# Altium integrated library WE_WR-WTB_Wire-to-Board Connectors_1.50 mm_rev15b.IntLib: 34 symbols
Pins are listed as number, name and electrical type; pins without a type are passive.

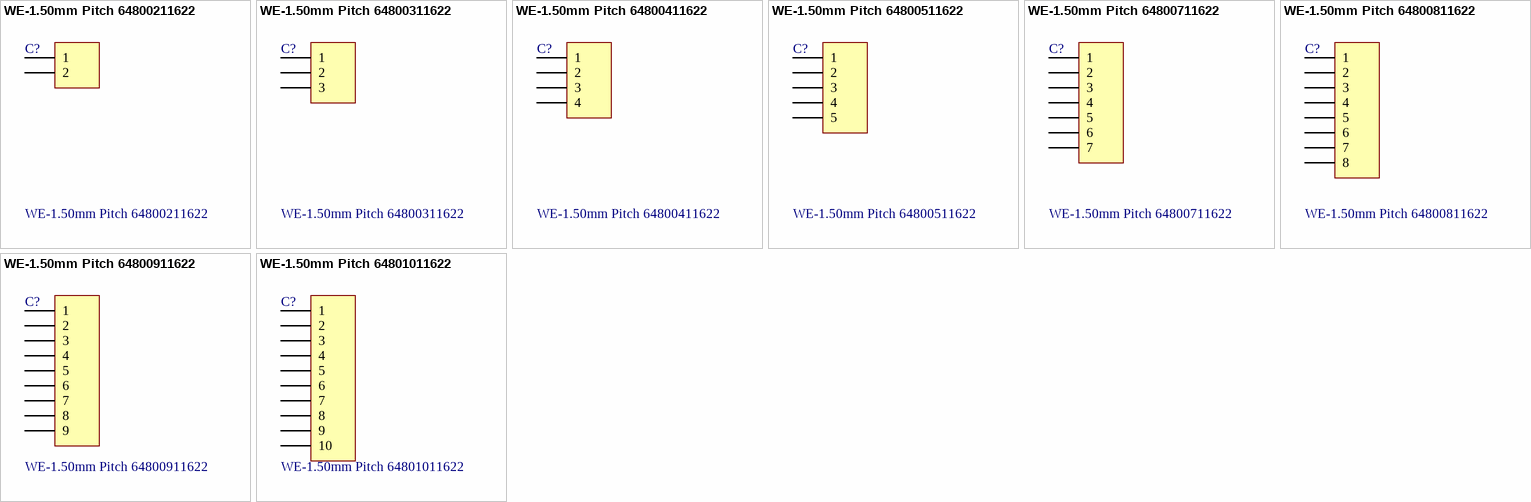
[diagram p0: symbols WE-1.50mm Pitch 64800211622 to WE-1.50mm Pitch 64801011622]

## WE-1.50mm Pitch 64800211622
designator C?
WR-WTB 1.50mm Male Shrouded Header; Manufacturer: Würth Elektronik eiSos GmbH; ComponentLink1 Description: Manufacturer; ComponentLink2 Description: Datasheet; NoPins: 2; Created Date: 11 June 2013; partNo: 64800211622; ComponentLink1URL: http://www.we-online.com; ComponentLink2URL: http://katalog.we-online.de/em/datasheet/6480xx11622.pdf; Created by: Karrer Zheng
footprint 64800211622
pins: 1, 2

## WE-1.50mm Pitch 64800311622
designator C?
WR-WTB 1.50mm Male Shrouded Header; Manufacturer: Würth Elektronik eiSos GmbH; ComponentLink1 Description: Manufacturer; ComponentLink2 Description: Datasheet; NoPins: 3; Created Date: 11 June 2013; partNo: 64800311622; ComponentLink1URL: http://www.we-online.com; ComponentLink2URL: http://katalog.we-online.de/em/datasheet/6480xx11622.pdf; Created by: Karrer Zheng
footprint 64800311622
pins: 1, 2, 3

## WE-1.50mm Pitch 64800411622
designator C?
WR-WTB 1.50mm Male Shrouded Header; Manufacturer: Würth Elektronik eiSos GmbH; ComponentLink1 Description: Manufacturer; ComponentLink2 Description: Datasheet; NoPins: 4; Created Date: 11 June 2013; partNo: 64800411622; ComponentLink1URL: http://www.we-online.com; ComponentLink2URL: http://katalog.we-online.de/em/datasheet/6480xx11622.pdf; Created by: Karrer Zheng
footprint 64800411622
pins: 1, 2, 3, 4

## WE-1.50mm Pitch 64800511622
designator C?
WR-WTB 1.50mm Male Shrouded Header; Manufacturer: Würth Elektronik eiSos GmbH; ComponentLink1 Description: Manufacturer; ComponentLink2 Description: Datasheet; NoPins: 5; Created Date: 11 June 2013; partNo: 64800511622; ComponentLink1URL: http://www.we-online.com; ComponentLink2URL: http://katalog.we-online.de/em/datasheet/6480xx11622.pdf; Created by: Karrer Zheng
footprint 64800511622
pins: 1, 2, 3, 4, 5

## WE-1.50mm Pitch 64800711622
designator C?
WR-WTB 1.50mm Male Shrouded Header; Manufacturer: Würth Elektronik eiSos GmbH; ComponentLink1 Description: Manufacturer; ComponentLink2 Description: Datasheet; NoPins: 7; Created Date: 11 June 2013; partNo: 64800711622; ComponentLink1URL: http://www.we-online.com; ComponentLink2URL: http://katalog.we-online.de/em/datasheet/6480xx11622.pdf; Created by: Karrer Zheng
footprint 64800711622
pins: 1, 2, 3, 4, 5, 6, 7

## WE-1.50mm Pitch 64800811622
designator C?
WR-WTB 1.50mm Male Shrouded Header; Manufacturer: Würth Elektronik eiSos GmbH; ComponentLink1 Description: Manufacturer; ComponentLink2 Description: Datasheet; NoPins: 8; Created Date: 11 June 2013; partNo: 64800811622; ComponentLink1URL: http://www.we-online.com; ComponentLink2URL: http://katalog.we-online.de/em/datasheet/6480xx11622.pdf; Created by: Karrer Zheng
footprint 64800811622
pins: 1, 2, 3, 4, 5, 6, 7, 8

## WE-1.50mm Pitch 64800911622
designator C?
WR-WTB 1.50mm Male Shrouded Header; Manufacturer: Würth Elektronik eiSos GmbH; ComponentLink1 Description: Manufacturer; ComponentLink2 Description: Datasheet; NoPins: 9; Created Date: 11 June 2013; partNo: 64800911622; ComponentLink1URL: http://www.we-online.com; ComponentLink2URL: http://katalog.we-online.de/em/datasheet/6480xx11622.pdf; Created by: Karrer Zheng
footprint 64800911622
pins: 1, 2, 3, 4, 5, 6, 7, 8, 9

## WE-1.50mm Pitch 64801011622
designator C?
WR-WTB 1.50mm Male Shrouded Header; Manufacturer: Würth Elektronik eiSos GmbH; ComponentLink1 Description: Manufacturer; ComponentLink2 Description: Datasheet; NoPins: 10; Created Date: 11 June 2013; partNo: 64801011622; ComponentLink1URL: http://www.we-online.com; ComponentLink2URL: http://katalog.we-online.de/em/datasheet/6480xx11622.pdf; Created by: Karrer Zheng
footprint 64801011622 (10 pins, straight)
pins: 1, 2, 3, 4, 5, 6, 7, 8, 9, 10


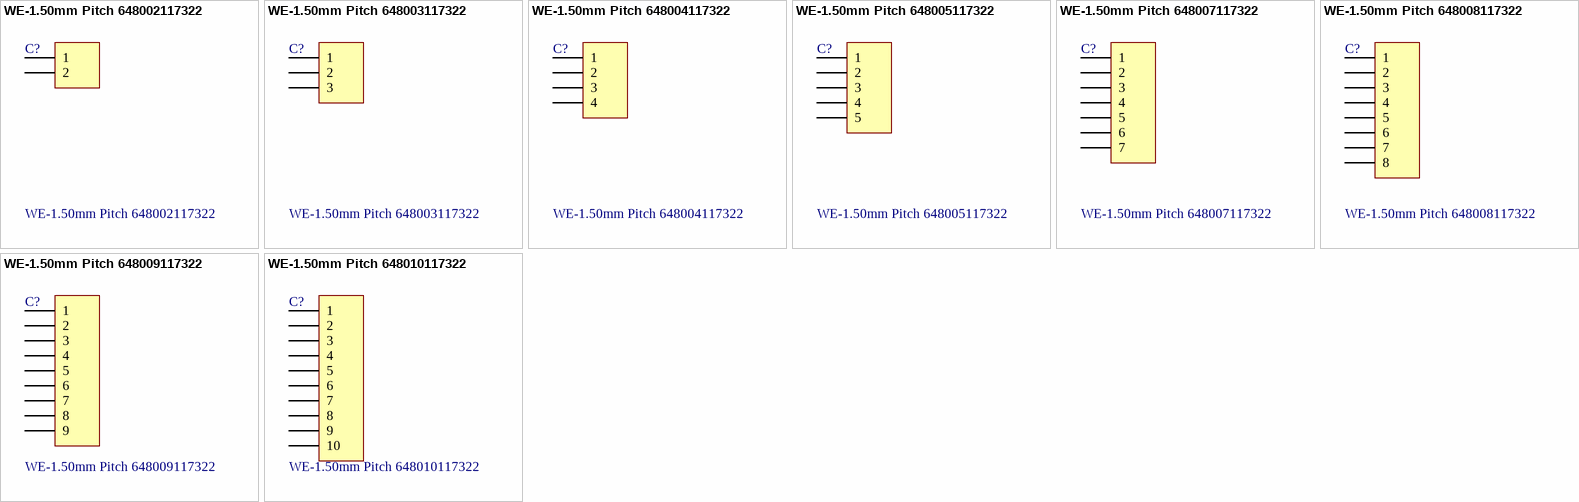
[diagram p1: symbols WE-1.50mm Pitch 648002117322 to WE-1.50mm Pitch 648010117322]

## WE-1.50mm Pitch 648002117322
designator C?
WR-WTB 1.50mm Male Horizontal Shrouded Header; Manufacturer: Würth Elektronik eiSos GmbH; ComponentLink1 Description: Manufacturer; ComponentLink2 Description: Datasheet; NoPins: 2; Created Date: 11 June 2013; partNo: 648002117322; ComponentLink1URL: http://www.we-online.com; ComponentLink2URL: http://katalog.we-online.de/em/datasheet/6480xx117322.pdf; Created by: Karrer Zheng
footprint 648002117322
pins: 1, 2

## WE-1.50mm Pitch 648003117322
designator C?
WR-WTB 1.50mm Male Horizontal Shrouded Header; Manufacturer: Würth Elektronik eiSos GmbH; ComponentLink1 Description: Manufacturer; ComponentLink2 Description: Datasheet; NoPins: 3; Created Date: 11 June 2013; partNo: 648003117322; ComponentLink1URL: http://www.we-online.com; ComponentLink2URL: http://katalog.we-online.de/em/datasheet/6480xx117322.pdf; Created by: Karrer Zheng
footprint 648003117322
pins: 1, 2, 3

## WE-1.50mm Pitch 648004117322
designator C?
WR-WTB 1.50mm Male Horizontal Shrouded Header; Manufacturer: Würth Elektronik eiSos GmbH; ComponentLink1 Description: Manufacturer; ComponentLink2 Description: Datasheet; NoPins: 4; Created Date: 11 June 2013; partNo: 648004117322; ComponentLink1URL: http://www.we-online.com; ComponentLink2URL: http://katalog.we-online.de/em/datasheet/6480xx117322.pdf; Created by: Karrer Zheng
footprint 648004117322
pins: 1, 2, 3, 4

## WE-1.50mm Pitch 648005117322
designator C?
WR-WTB 1.50mm Male Horizontal Shrouded Header; Manufacturer: Würth Elektronik eiSos GmbH; ComponentLink1 Description: Manufacturer; ComponentLink2 Description: Datasheet; NoPins: 5; Created Date: 11 June 2013; partNo: 648005117322; ComponentLink1URL: http://www.we-online.com; ComponentLink2URL: http://katalog.we-online.de/em/datasheet/6480xx117322.pdf; Created by: Karrer Zheng
footprint 648005117322
pins: 1, 2, 3, 4, 5

## WE-1.50mm Pitch 648007117322
designator C?
WR-WTB 1.50mm Male Horizontal Shrouded Header; Manufacturer: Würth Elektronik eiSos GmbH; ComponentLink1 Description: Manufacturer; ComponentLink2 Description: Datasheet; NoPins: 7; Created Date: 11 June 2013; partNo: 648007117322; ComponentLink1URL: http://www.we-online.com; ComponentLink2URL: http://katalog.we-online.de/em/datasheet/6480xx117322.pdf; Created by: Karrer Zheng
footprint 648007117322
pins: 1, 2, 3, 4, 5, 6, 7

## WE-1.50mm Pitch 648008117322
designator C?
WR-WTB 1.50mm Male Horizontal Shrouded Header; Manufacturer: Würth Elektronik eiSos GmbH; ComponentLink1 Description: Manufacturer; ComponentLink2 Description: Datasheet; NoPins: 8; Created Date: 11 June 2013; partNo: 648008117322; ComponentLink1URL: http://www.we-online.com; ComponentLink2URL: http://katalog.we-online.de/em/datasheet/6480xx117322.pdf; Created by: Karrer Zheng
footprint 648008117322
pins: 1, 2, 3, 4, 5, 6, 7, 8

## WE-1.50mm Pitch 648009117322
designator C?
WR-WTB 1.50mm Male Horizontal Shrouded Header; Manufacturer: Würth Elektronik eiSos GmbH; ComponentLink1 Description: Manufacturer; ComponentLink2 Description: Datasheet; NoPins: 9; Created Date: 11 June 2013; partNo: 648009117322; ComponentLink1URL: http://www.we-online.com; ComponentLink2URL: http://katalog.we-online.de/em/datasheet/6480xx117322.pdf; Created by: Karrer Zheng
footprint 648009117322
pins: 1, 2, 3, 4, 5, 6, 7, 8, 9

## WE-1.50mm Pitch 648010117322
designator C?
WR-WTB 1.50mm Male Horizontal Shrouded Header; Manufacturer: Würth Elektronik eiSos GmbH; ComponentLink1 Description: Manufacturer; ComponentLink2 Description: Datasheet; NoPins: 10; Created Date: 11 June 2013; partNo: 648010117322; ComponentLink1URL: http://www.we-online.com; ComponentLink2URL: http://katalog.we-online.de/em/datasheet/6480xx117322.pdf; Created by: Karrer Zheng
footprint 648010117322
pins: 1, 2, 3, 4, 5, 6, 7, 8, 9, 10


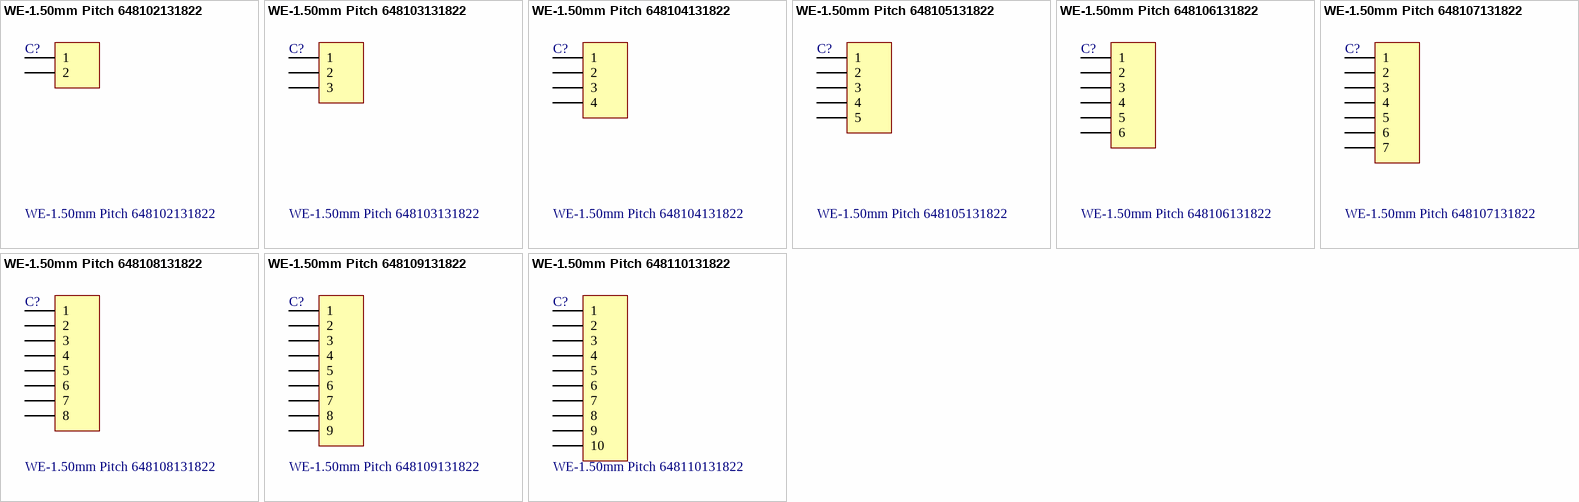
[diagram p2: symbols WE-1.50mm Pitch 648102131822 to WE-1.50mm Pitch 648110131822]

## WE-1.50mm Pitch 648102131822
designator C?
WR-WTB 1.50mm; Manufacturer: Würth Elektronik eiSos GmbH; ComponentLink1 Description: Manufacturer; ComponentLink2 Description: Datasheet; NoPins: 2; Created Date: 13 June 2013; partNo: 648102131822; ComponentLink1URL: http://www.we-online.com; ComponentLink2URL: http://katalog.we-online.de/em/datasheet/6481xx131822.pdf; Created by: Karrer Zheng
footprint 648102131822 (SMT Male Horizontal Shrouded Header - 01p 1 row - T & R packaging)
pins: 1, 2

## WE-1.50mm Pitch 648103131822
designator C?
WR-WTB 1.50mm; Manufacturer: Würth Elektronik eiSos GmbH; ComponentLink1 Description: Manufacturer; ComponentLink2 Description: Datasheet; NoPins: 3; Created Date: 13 June 2013; partNo: 648103131822; ComponentLink1URL: http://www.we-online.com; ComponentLink2URL: http://katalog.we-online.de/em/datasheet/6481xx131822.pdf; Created by: Karrer Zheng
footprint 648103131822 (SMT Male Horizontal Shrouded Header - 02p 1 row - T & R packaging)
pins: 1, 2, 3

## WE-1.50mm Pitch 648104131822
designator C?
WR-WTB 1.50mm; Manufacturer: Würth Elektronik eiSos GmbH; ComponentLink1 Description: Manufacturer; ComponentLink2 Description: Datasheet; NoPins: 4; Created Date: 13 June 2013; partNo: 648104131822; ComponentLink1URL: http://www.we-online.com; ComponentLink2URL: http://katalog.we-online.de/em/datasheet/6481xx131822.pdf; Created by: Karrer Zheng
footprint 648104131822 (SMT Male Horizontal Shrouded Header - 03p 1 row - T & R packaging)
pins: 1, 2, 3, 4

## WE-1.50mm Pitch 648105131822
designator C?
WR-WTB 1.50mm; Manufacturer: Würth Elektronik eiSos GmbH; ComponentLink1 Description: Manufacturer; ComponentLink2 Description: Datasheet; NoPins: 5; Created Date: 13 June 2013; partNo: 648105131822; ComponentLink1URL: http://www.we-online.com; ComponentLink2URL: http://katalog.we-online.de/em/datasheet/6481xx131822.pdf; Created by: Karrer Zheng
footprint 648105131822 (SMT Male Horizontal Shrouded Header - 05p 1 row - T & R packaging)
pins: 1, 2, 3, 4, 5

## WE-1.50mm Pitch 648106131822
designator C?
WR-WTB 1.50mm; Manufacturer: Würth Elektronik eiSos GmbH; ComponentLink1 Description: Manufacturer; ComponentLink2 Description: Datasheet; NoPins: 6; Created Date: 13 June 2013; partNo: 648106131822; ComponentLink1URL: http://www.we-online.com; ComponentLink2URL: http://katalog.we-online.de/em/datasheet/6481xx131822.pdf; Created by: Karrer Zheng
footprint 648106131822 (SMT Male Horizontal Shrouded Header - 06p 1 row - T & R packaging)
pins: 1, 2, 3, 4, 5, 6

## WE-1.50mm Pitch 648107131822
designator C?
WR-WTB 1.50mm; Manufacturer: Würth Elektronik eiSos GmbH; ComponentLink1 Description: Manufacturer; ComponentLink2 Description: Datasheet; NoPins: 7; Created Date: 13 June 2013; partNo: 648107131822; ComponentLink1URL: http://www.we-online.com; ComponentLink2URL: http://katalog.we-online.de/em/datasheet/6481xx131822.pdf; Created by: Karrer Zheng
footprint 648107131822 (SMT Male Horizontal Shrouded Header - 07p 1 row - T & R packaging)
pins: 1, 2, 3, 4, 5, 6, 7

## WE-1.50mm Pitch 648108131822
designator C?
WR-WTB 1.50mm; Manufacturer: Würth Elektronik eiSos GmbH; ComponentLink1 Description: Manufacturer; ComponentLink2 Description: Datasheet; NoPins: 8; Created Date: 13 June 2013; partNo: 648108131822; ComponentLink1URL: http://www.we-online.com; ComponentLink2URL: http://katalog.we-online.de/em/datasheet/6481xx131822.pdf; Created by: Karrer Zheng
footprint 648108131822 (SMT Male Horizontal Shrouded Header - 08p 1 row - T & R packaging)
pins: 1, 2, 3, 4, 5, 6, 7, 8

## WE-1.50mm Pitch 648109131822
designator C?
WR-WTB 1.50mm; Manufacturer: Würth Elektronik eiSos GmbH; ComponentLink1 Description: Manufacturer; ComponentLink2 Description: Datasheet; NoPins: 9; Created Date: 13 June 2013; partNo: 648109131822; ComponentLink1URL: http://www.we-online.com; ComponentLink2URL: http://katalog.we-online.de/em/datasheet/6481xx131822.pdf; Created by: Karrer Zheng
footprint 648109131822 (SMT Male Horizontal Shrouded Header - 09p 1 row - T & R packaging)
pins: 1, 2, 3, 4, 5, 6, 7, 8, 9

## WE-1.50mm Pitch 648110131822
designator C?
WR-WTB 1.50mm; Manufacturer: Würth Elektronik eiSos GmbH; ComponentLink1 Description: Manufacturer; ComponentLink2 Description: Datasheet; NoPins: 10; Created Date: 13 June 2013; partNo: 648110131822; ComponentLink1URL: http://www.we-online.com; ComponentLink2URL: http://katalog.we-online.de/em/datasheet/6481xx131822.pdf; Created by: Karrer Zheng
footprint 648110131822 (SMT Male Horizontal Shrouded Header - 10p 1 row - T & R packaging)
pins: 1, 2, 3, 4, 5, 6, 7, 8, 9, 10


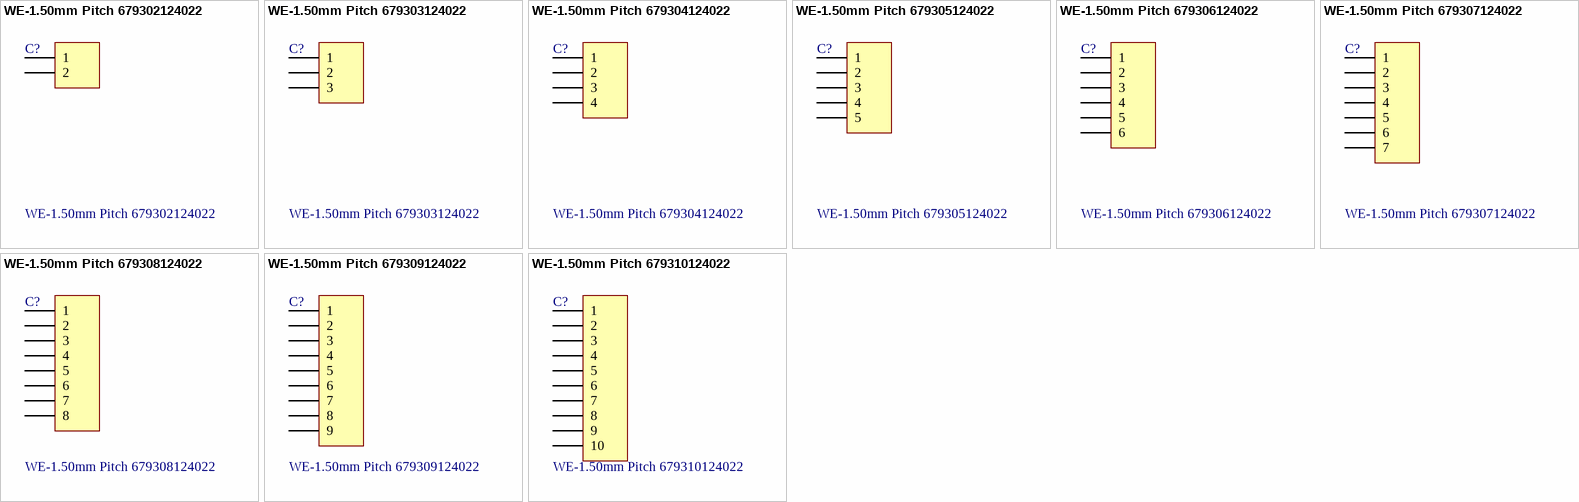
[diagram p3: symbols WE-1.50mm Pitch 679302124022 to WE-1.50mm Pitch 679310124022]

## WE-1.50mm Pitch 679302124022
designator C?
WR-WTB 1.50mm; Manufacturer: Würth Elektronik eiSos GmbH; ComponentLink1 Description: Manufacturer; ComponentLink2 Description: Datasheet; NoPins: 2; Created Date: 11 June 2013; partNo: 679302124022; ComponentLink1URL: http://www.we-online.com; ComponentLink2URL: http://katalog.we-online.de/em/datasheet/6793xx124022.pdf; Created by: Karrer Zheng
footprint 679302124022 (SMT Male Vertical Shrouded Header - 02p 1 row - Pick & Place Cap - T & R packagin)
pins: 1, 2

## WE-1.50mm Pitch 679303124022
designator C?
WR-WTB 1.50mm; Manufacturer: Würth Elektronik eiSos GmbH; ComponentLink1 Description: Manufacturer; ComponentLink2 Description: Datasheet; NoPins: 3; Created Date: 11 June 2013; partNo: 679303124022; ComponentLink1URL: http://www.we-online.com; ComponentLink2URL: http://katalog.we-online.de/em/datasheet/6793xx124022.pdf; Created by: Karrer Zheng
footprint 679303124022 (SMT Male Vertical Shrouded Header - 03p 1 row - Pick & Place Cap - T & R packagin)
pins: 1, 2, 3

## WE-1.50mm Pitch 679304124022
designator C?
WR-WTB 1.50mm; Manufacturer: Würth Elektronik eiSos GmbH; ComponentLink1 Description: Manufacturer; ComponentLink2 Description: Datasheet; NoPins: 4; Created Date: 11 June 2013; partNo: 679304124022; ComponentLink1URL: http://www.we-online.com; ComponentLink2URL: http://katalog.we-online.de/em/datasheet/6793xx124022.pdf; Created by: Karrer Zheng
footprint 679304124022 (SMT Male Vertical Shrouded Header - 04p 1 row - Pick & Place Cap - T & R packagin)
pins: 1, 2, 3, 4

## WE-1.50mm Pitch 679305124022
designator C?
WR-WTB 1.50mm; Manufacturer: Würth Elektronik eiSos GmbH; ComponentLink1 Description: Manufacturer; ComponentLink2 Description: Datasheet; NoPins: 5; Created Date: 11 June 2013; partNo: 679305124022; ComponentLink1URL: http://www.we-online.com; ComponentLink2URL: http://katalog.we-online.de/em/datasheet/6793xx124022.pdf; Created by: Karrer Zheng
footprint 679305124022 (SMT Male Vertical Shrouded Header - 05p 1 row - Pick & Place Cap - T & R packagin)
pins: 1, 2, 3, 4, 5

## WE-1.50mm Pitch 679306124022
designator C?
WR-WTB 1.50mm; Manufacturer: Würth Elektronik eiSos GmbH; ComponentLink1 Description: Manufacturer; ComponentLink2 Description: Datasheet; NoPins: 6; Created Date: 11 June 2013; partNo: 679306124022; ComponentLink1URL: http://www.we-online.com; ComponentLink2URL: http://katalog.we-online.de/em/datasheet/6793xx124022.pdf; Created by: Karrer Zheng
footprint 679306124022 (SMT Male Vertical Shrouded Header - 06p 1 row - Pick & Place Cap - T & R packagin)
pins: 1, 2, 3, 4, 5, 6

## WE-1.50mm Pitch 679307124022
designator C?
WR-WTB 1.50mm; Manufacturer: Würth Elektronik eiSos GmbH; ComponentLink1 Description: Manufacturer; ComponentLink2 Description: Datasheet; NoPins: 7; Created Date: 11 June 2013; partNo: 679307124022; ComponentLink1URL: http://www.we-online.com; ComponentLink2URL: http://katalog.we-online.de/em/datasheet/6793xx124022.pdf; Created by: Karrer Zheng
footprint 679307124022 (SMT Male Vertical Shrouded Header - 07p 1 row - Pick & Place Cap - T & R packagin)
pins: 1, 2, 3, 4, 5, 6, 7

## WE-1.50mm Pitch 679308124022
designator C?
WR-WTB 1.50mm; Manufacturer: Würth Elektronik eiSos GmbH; ComponentLink1 Description: Manufacturer; ComponentLink2 Description: Datasheet; NoPins: 8; Created Date: 11 June 2013; partNo: 679308124022; ComponentLink1URL: http://www.we-online.com; ComponentLink2URL: http://katalog.we-online.de/em/datasheet/6793xx124022.pdf; Created by: Karrer Zheng
footprint 679308124022 (SMT Male Vertical Shrouded Header - 08p 1 row - Pick & Place Cap - T & R packagin)
pins: 1, 2, 3, 4, 5, 6, 7, 8

## WE-1.50mm Pitch 679309124022
designator C?
WR-WTB 1.50mm; Manufacturer: Würth Elektronik eiSos GmbH; ComponentLink1 Description: Manufacturer; ComponentLink2 Description: Datasheet; NoPins: 9; Created Date: 11 June 2013; partNo: 679309124022; ComponentLink1URL: http://www.we-online.com; ComponentLink2URL: http://katalog.we-online.de/em/datasheet/6793xx124022.pdf; Created by: Karrer Zheng
footprint 679309124022 (SMT Male Vertical Shrouded Header - 09p 1 row - Pick & Place Cap - T & R packagin)
pins: 1, 2, 3, 4, 5, 6, 7, 8, 9

## WE-1.50mm Pitch 679310124022
designator C?
WR-WTB 1.50mm; Manufacturer: Würth Elektronik eiSos GmbH; ComponentLink1 Description: Manufacturer; ComponentLink2 Description: Datasheet; NoPins: 10; Created Date: 11 June 2013; partNo: 679310124022; ComponentLink1URL: http://www.we-online.com; ComponentLink2URL: http://katalog.we-online.de/em/datasheet/6793xx124022.pdf; Created by: Karrer Zheng
footprint 679310124022 (SMT Male Vertical Shrouded Header - 10p 1 row - Pick & Place Cap - T & R packagin)
pins: 1, 2, 3, 4, 5, 6, 7, 8, 9, 10